# EAGLE library part FE03-2W (library untitled)
FEMALE HEADER
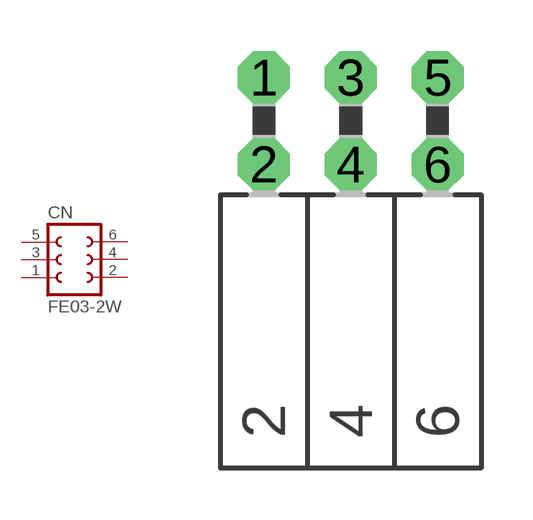
[diagram p2: symbol with the pads of FE03-2W; footprint FE03-2W]

Designator prefix CN

## FE03-2W  [FE03-2W]
1  1  pas
2  2  pas
3  3  pas
4  4  pas
5  5  pas
6  6  pas

## Footprint FE03-2W (pad centres in mm)
FEMALE HEADER
drill 1.016 octagon: 1 -2.54,1.27; 2 -2.54,-1.27; 3 0,1.27; 4 0,-1.27; 5 2.54,1.27; 6 2.54,-1.27